# EAGLE library part 87831-1420 (library EW_Connectors)
Header 2.00mm Milli-Grid, vert, TH, 14w Molex MILLI-GRID Series, Series Number 87831, 2mm Pitch 14 Way 2 Row Straight PCB Header, Solder Termination, 2A Source: Datasheet <http://docs-europe.electrocomponents.com/webdocs/150d/0900766b8150deae.pdf>
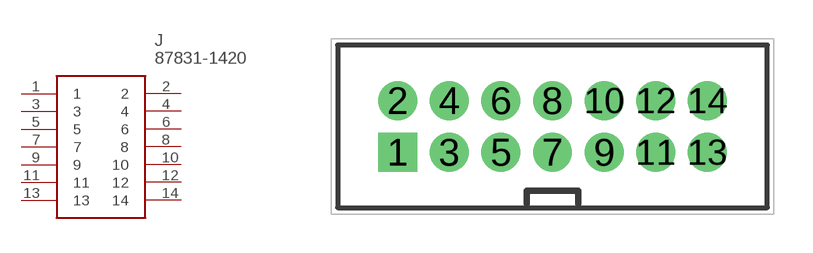
[diagram p4: symbol with the pads of SHDR14W55P200_2X7_1665X630X640; footprint SHDR14W55P200_2X7_1665X630X640]

Designator prefix J

## 87831-1420 (ALLIED_NUMBER: 70090651; ALLIED_PRICE-STOCK: https://www.alliedelec.com/molex-incorporated-87831-1420/70090651/; ARROW_PART_NUMBER: 87831-1420; ARROW_PRICE-STOCK: http://uk.rs-online.com/web/p/products/1707124; DESCRIPTION: Header 2.00mm Milli-Grid, vert, TH, 14w Molex MILLI-GRID Series, Series Number 87831, 2mm Pitch 14 Way 2 Row Straight PCB Header, Solder Termination, 2A; HEIGHT: 6.4mm; MANUFACTURER_NAME: Molex; MANUFACTURER_PART_NUMBER: 87831-1420; RS_PART_NUMBER: 1707124; RS_PRICE-STOCK: http://uk.rs-online.com/web/p/products/1707124)  [SHDR14W55P200_2X7_1665X630X640]
1  1
2  2
3  3
4  4
5  5
6  6
7  7
8  8
9  9
10  10
11  11
12  12
13  13
14  14

## Footprint SHDR14W55P200_2X7_1665X630X640 (pad centres in mm)
87831-1420
drill 1 pad 1.5 square: 1 0,0
drill 1 pad 1.5: 2 0,2; 3 2,0; 4 2,2; 5 4,0; 6 4,2; 7 6,0; 8 6,2; 9 8,0; 10 8,2; 11 10,0; 12 10,2; 13 12,0; 14 12,2